# Altium schematic symbol library UVEEC LED Cube.SchLib: 12 symbols
Pins are listed as number, name and electrical type; pins without a type are passive.

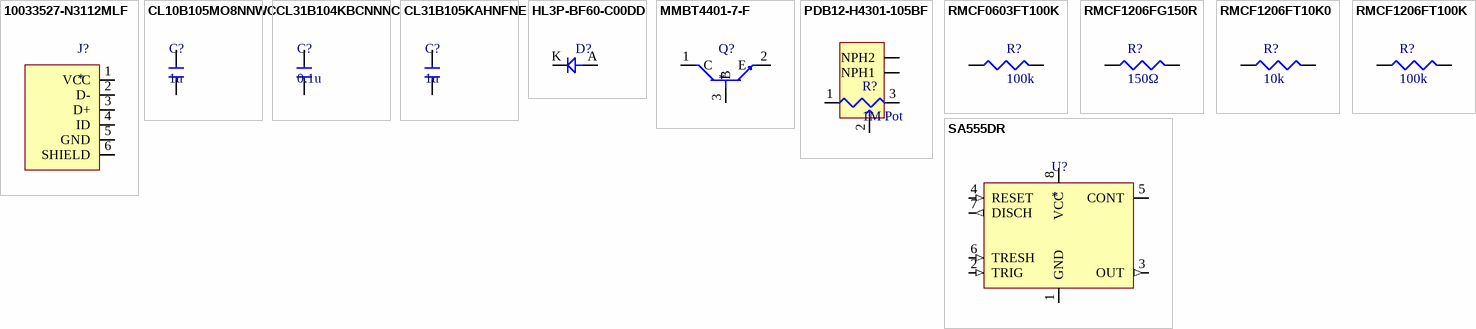
[diagram p0: symbols 10033527-N3112MLF to SA555DR]

## 10033527-N3112MLF
designator J?
MINI USB 2.0- AB Type Receptacle conn. Right Angle Surface Mount Type; Manufacturer: Amphenol ICC / FCI; Manufacturer Part Number: 10033527-N3112MLF; Number of Ports: 1; Gender: Female; Pitch: 0.8mm; Supplier: Digi-Key; Supplier Part Number: 609-10033527-N3112MLFCT-ND; RoHS: Yes; Category: Connectors; Stock: 11754; Pricing: 1=0.51, 10=0.446, 25=0.4076, 50=0.3838, 100=0.3677, 250=0.33576 (USD); Mounting Technology: Surface Mount; Contact Material: Copper Alloy; Contact Plating: Gold; Housing Material: Polymer; Packaging: Tape and Reel; Package Quantity: 750; Termination: Solder; Orientation: Right Angle; Length: 9.9mm; Depth: 9.2mm; RoHS Compliant: Yes; ComponentLink1URL: https://datasheet.ciiva.com/3094/10033527-3094701.pdf?src-supplier=Avnet; ComponentLink1Description: https://datasheet.ciiva.com/3094/10033527-3094701.pdf?src-supplier=Avnet
footprint 10033527-N3112MLF
pins: 1 VCC, 2 D-, 3 D+, 4 ID, 5 GND, 6 SHIELD

## CL10B105MO8NNWC
designator C?, comment 1u
CAP CER 1UF 16V X7R 0603; Manufacturer: Samsung; Manufacturer Part Number: CL10B105MO8NNWC; Tolerance: 20%; Supplier: Digi-Key; Supplier Part Number: 1276-6524-1-ND; RoHS: Yes; Category: Ceramic Capacitors; Stock: 1688630; Pricing: 1=0.1, 10=0.036, 50=0.0196, 100=0.016, 500=0.01142, 1000=0.00897 (USD); Mounting Technology: Surface Mount; Case/Package: 0603; Case Code (Metric): 1608; Case Code (Imperial): 0603; Min Operating Temperature: -55°C; Max Operating Temperature: 125°C; Packaging: Cut Tape; Value: 1uF; Voltage Rating: 16V; Series: CL; Length: 0.063inch; Width: 0.031inch; Thickness: 0.035inch; RoHS Compliant: Yes; ComponentLink1URL: https://media.digikey.com/pdf/Data%20Sheets/Samsung%20PDFs/CL10B105MO8NNWC.pdf?src-supplier=Digi-Key; ComponentLink1Description: https://media.digikey.com/pdf/Data%20Sheets/Samsung%20PDFs/CL10B105MO8NNWC.pdf?src-supplier=Digi-Key; ComponentLink2URL: http://www.farnell.com/datasheets/2710574.pdf?src-supplier=Farnell; ComponentLink2Description: http://www.farnell.com/datasheets/2710574.pdf?src-supplier=Farnell; ComponentLink3URL: https://datasheet.octopart.com/CL10B105MO8NNWC-Samsung-Electro-Mechanics-datasheet-120079234.pdf?src-supplier=Future+Electronics; ComponentLink3Description: https://datasheet.octopart.com/CL10B105MO8NNWC-Samsung-Electro-Mechanics-datasheet-120079234.pdf?src-supplier=Future+Electronics; ComponentLink4URL: http://www.farnell.com/datasheets/2710574.pdf?src-supplier=Newark; ComponentLink4Description: http://www.farnell.com/datasheets/2710574.pdf?src-supplier=Newark; ComponentLink5URL: http://www.farnell.com/datasheets/2710574.pdf?src-supplier=Element14; ComponentLink5Description: http://www.farnell.com/datasheets/2710574.pdf?src-supplier=Element14
footprint Capacitor 0603
pins: 1, 2

## CL31B104KBCNNNC
designator C?, comment 0.1u
Multilayer Ceramic Capacitor, 0.1 uF, 50 V, ± 10%, X7R, 1206 [3216 Metric]; Manufacturer: Samsung; Manufacturer Part Number: CL31B104KBCNNNC; Value: 100nF; Voltage: 50V; Supplier: Digi-Key; Supplier Part Number: 1276-1017-1-ND; RoHS: Yes; Category: Ceramic Capacitors; Stock: 760991; Pricing: 1=0.11, 10=0.078, 50=0.0444, 100=0.0368, 500=0.02582, 1000=0.02137 (USD); Mounting Technology: Surface Mount; Case/Package: 1206; Case Code (Metric): 3216; Case Code (Imperial): 1206; Material: Ceramic; Min Operating Temperature: -55°C; Max Operating Temperature: 125°C; Tolerance: 10%; Dielectric: X7R; Voltage Rating (DC): 50V; Packaging: Tape and Reel; Voltage Rating: 50V; Series: CL; Length: 3.2mm; Height: 0.85mm; Depth: 1.6mm; Lead Free: Lead Free; RoHS Compliant: Yes; ComponentLink1URL: https://datasheet.ciiva.com/25710/cl31b104kbcnnnc-25710293.pdf?src-supplier=Digi-Key; ComponentLink1Description: https://datasheet.ciiva.com/25710/cl31b104kbcnnnc-25710293.pdf?src-supplier=Digi-Key; ComponentLink2URL: https://datasheet.ciiva.com/29201/451941-da-01-en-vs-kondensator-1206-29201689.pdf?src-supplier=Conrad; ComponentLink2Description: https://datasheet.ciiva.com/29201/451941-da-01-en-vs-kondensator-1206-29201689.pdf?src-supplier=Conrad; ComponentLink3URL: https://datasheet.ciiva.com/16298/cl05b104kq5nnnc-16298186.pdf?src-supplier=Future+Electronics; ComponentLink3Description: https://datasheet.ciiva.com/16298/cl05b104kq5nnnc-16298186.pdf?src-supplier=Future+Electronics
footprint Capacitor 1206
pins: 1, 2

## CL31B105KAHNFNE
designator C?, comment 1u
Cap Ceramic 1uF 25V X7R 10% SMD 1206 125°C Embossed T/R; Manufacturer: Samsung; Manufacturer Part Number: CL31B105KAHNFNE; Supplier: Digi-Key; Supplier Part Number: 1276-3086-1-ND; RoHS: Yes; Category: Ceramic Capacitors; Stock: 266403; Pricing: 1=0.13, 10=0.094, 50=0.0534, 100=0.0443, 500=0.03106, 1000=0.02571 (USD); Mounting Technology: Surface Mount; Case/Package: 1206; Case Code (Metric): 3216; Case Code (Imperial): 1206; Min Operating Temperature: -55°C; Max Operating Temperature: 125°C; Packaging: Tape and Reel; Value: 1uF; Tolerance: 10%; Voltage Rating: 25V; Dielectric: X7R; Series: CL; Construction: Flat; Length: 3.2mm; Height: 1.6mm; Depth: 1.6mm; Radiation Hardening: No; RoHS Compliant: Yes; ComponentLink1URL: https://datasheet.ciiva.com/25731/cl31b105kahnfne-25731284.pdf?src-supplier=Digi-Key; ComponentLink1Description: https://datasheet.ciiva.com/25731/cl31b105kahnfne-25731284.pdf?src-supplier=Digi-Key
footprint Capacitor 1206
pins: 1, 2

## HL3P-BF60-C00DD
designator D?  (value not drawn)
LED Yellow Green 570nm 20mA 2-Pin Through Hole T/R; Manufacturer: Broadcom; Manufacturer Part Number: HL3P-BF60-C00DD; Supplier: Digi-Key; Supplier Part Number: 516-HL3P-BF60-C00DDCT-ND; RoHS: No; Stock: 26786; Pricing: 1=0.58, 10=0.384, 100=0.2541, 1000=0.19616 (USD)
footprint Diode TH D 1.05 P 2.54
pins: A, K

## MMBT4401-7-F
designator Q?
NPN Ic=600mA Vceo=40V hfe=100~300 fT=250MHz P=310mW SOT-23; Manufacturer: Diodes; Manufacturer Part Number: MMBT4401-7-F; Max Power Dissipation: 300mW; Frequency: 250MHz; Collector Emitter Voltage (VCEO): 40V; hFE Min: 100; Number of Elements: 1; Max Collector Current: 600mA; Collector Base Voltage (VCBO): 60V; Emitter Base Voltage (VEBO): 6V; Collector Emitter Saturation Voltage: 750mV; Power Dissipation: 310mW; Supplier: Digi-Key; Supplier Part Number: MMBT4401-FDICT-ND; RoHS: Yes; Category: BJTs; Stock: 950358; Pricing: 1=0.14, 10=0.098, 100=0.0528, 500=0.04146, 1000=0.02878 (USD); Mounting Technology: Surface Mount; Case/Package: SOT-23; Pins: 3; Weight: 0.000282oz; Min Operating Temperature: -55°C; Max Operating Temperature: 150°C; Polarity: NPN; Packaging: Tape and Reel; Package Quantity: 3000; Transition Frequency: 250MHz; Collector Emitter Breakdown Voltage: 40V; Max Breakdown Voltage: 40V; Continuous Collector Current: 600mA; Clock Frequency: 250MHz; Gain Bandwidth Product: 250MHz; Voltage Rating (DC): 40V; Series: Automotive, AEC-Q101; Collector-emitter Voltage-Max: 750mV; Length: 3.05mm; Width: 1.4mm; Height: 1mm; Radiation Hardening: No; Reach SVHC Compliant: Yes; Lead Free: Lead Free; RoHS Compliant: Yes; ComponentLink1URL: https://datasheet.ciiva.com/15139/getdatasheetpartid-91436-15139165.pdf?src-supplier=Verical; ComponentLink1Description: https://datasheet.ciiva.com/15139/getdatasheetpartid-91436-15139165.pdf?src-supplier=Verical; ComponentLink2URL: https://datasheet.ciiva.com/972/ds30039-972547.pdf?src-supplier=Digi-Key; ComponentLink2Description: https://datasheet.ciiva.com/972/ds30039-972547.pdf?src-supplier=Digi-Key; ComponentLink3URL: https://datasheet.ciiva.com/972/ds30039-972548.pdf?src-supplier=Digi-Key; ComponentLink3Description: https://datasheet.ciiva.com/972/ds30039-972548.pdf?src-supplier=Digi-Key; ComponentLink4URL: https://datasheet.ciiva.com/972/ds30039-972549.pdf?src-supplier=Digi-Key; ComponentLink4Description: https://datasheet.ciiva.com/972/ds30039-972549.pdf?src-supplier=Digi-Key; ComponentLink5URL: https://datasheet.ciiva.com/16199/ds30039-16199054.pdf?src-supplier=Future+Electronics; ComponentLink5Description: https://datasheet.ciiva.com/16199/ds30039-16199054.pdf?src-supplier=Future+Electronics; ComponentLink6URL: https://datasheet.ciiva.com/11201/ds30039-11201820.pdf?src-supplier=Avnet; ComponentLink6Description: https://datasheet.ciiva.com/11201/ds30039-11201820.pdf?src-supplier=Avnet
footprint SOT-23-3
pins: 1 C, 2 E, 3 B

## PDB12-H4301-105BF
designator R?, comment 1M Pot
Res Carbon Film POT 1M Ohm 20% 2/25W 1(Elec)/1(Mech)Turn 6mm (12.4 X 34.6mm) Pin Bracket Mount/Through Hole; Manufacturer: Bourns; Manufacturer Part Number: PDB12-H4301-105BF; Value: 1MR; Power Rating: 80mW; Number of Turns: 1; Supplier: Digi-Key; Supplier Part Number: PDB12-H4301-105BF-ND; RoHS: Yes; Category: Variable Resistors and Potentiometers; Stock: 887; Pricing: 1=1.28, 10=1.133, 25=1.02, 50=0.9822, 100=0.9444, 250=0.88768, 500=0.75548, 1000=0.69882, 5000=0.57416 (USD); Mounting Technology: Through Hole,Brackets; Min Operating Temperature: -10°C; Max Operating Temperature: 50°C; Package Quantity: 100; Packaging: Bulk; Tolerance: 20%; Resistor Type: Carbon; Taper: Linear; Termination: Pin; Number of Gangs: 1; Max Power Dissipation: 80mW; Type: Potentiometer; Series: PDB12; Technology: CARBON FILM; Length: 12.4mm; Depth: 12.4mm; Radiation Hardening: No; Military Standard: Not; RoHS Compliant: Yes; ComponentLink1URL: https://datasheet.ciiva.com/26913/getdatasheetpartid-380329-26913658.pdf?src-supplier=Verical; ComponentLink1Description: https://datasheet.ciiva.com/26913/getdatasheetpartid-380329-26913658.pdf?src-supplier=Verical; ComponentLink2URL: https://datasheet.ciiva.com/8702/pdb12-8702733.pdf?src-supplier=Avnet; ComponentLink2Description: https://datasheet.ciiva.com/8702/pdb12-8702733.pdf?src-supplier=Avnet
footprint PDB12-H4301-105BF
pins: 1 CCW, 2 WIPER, 3 CW, NPH1, NPH2

## RMCF0603FT100K
designator R?, comment 100k
RES 100K OHM 1% 1/10W 0603; Manufacturer: Stackpole Electronics; Manufacturer Part Number: RMCF0603FT100K; Value: 100kR; Max Power Dissipation: 100mW; Temperature Coefficient: 100ppm/°C; Supplier: Digi-Key; Supplier Part Number: RMCF0603FT100KCT-ND; RoHS: Yes; Category: Chip SMD Resistors; Stock: 1802421; Pricing: 1=0.1, 10=0.014, 50=0.0086, 100=0.0071, 500=0.00474, 1000=0.00404 (USD); Mounting Technology: Surface Mount; Case/Package: 0603; Case Code (Metric): 1608; Case Code (Imperial): 0603; Contact Plating: Tin,Matte; Min Operating Temperature: -55°C; Max Operating Temperature: 155°C; Tolerance: 1%; Packaging: Tape and Reel; Number of Terminations: 2; Features: Automotive AEC-Q200; Series: RMCF; Construction: Rectangular; Length: 1.55mm; Width: 0.031inch; Height: 0.022inch; Depth: 0.8mm; Radiation Hardening: No; Military Standard: Not; Lead Free: Lead Free; RoHS Compliant: Yes; ComponentLink1URL: https://datasheet.ciiva.com/15193/getdatasheetpartid-362597-15193437.pdf?src-supplier=Verical; ComponentLink1Description: https://datasheet.ciiva.com/15193/getdatasheetpartid-362597-15193437.pdf?src-supplier=Verical
footprint Resistor 0603
pins: 1, 2

## RMCF1206FG150R
designator R?, comment 150Ω
RES 150 OHM 1% 1/4W 1206; Manufacturer: Stackpole Electronics; Manufacturer Part Number: RMCF1206FG150R; Value: 150R; Max Power Dissipation: 250mW; Temperature Coefficient: 100ppm/°C; Supplier: Digi-Key; Supplier Part Number: RMCF1206FG150RCT-ND; RoHS: Yes; Category: Chip SMD Resistors; Stock: 105204; Pricing: 1=0.1, 10=0.023, 50=0.0146, 100=0.0122, 500=0.00832, 1000=0.00718, 5000=0.00526 (USD); Mounting Technology: Surface Mount; Case/Package: 1206; Case Code (Metric): 3216; Case Code (Imperial): 1206; Contact Plating: Tin,Matte; Min Operating Temperature: -55°C; Max Operating Temperature: 155°C; Packaging: Tape and Reel; Tolerance: 1%; Number of Terminations: 2; Features: Automotive AEC-Q200; Series: RMCF; Ratings: AEC-Q200; Radiation Hardening: No; RoHS Compliant: Yes; ComponentLink1URL: https://www.seielect.com/catalog/SEI-RMCF_RMCP.pdf?src-supplier=Avnet; ComponentLink1Description: https://www.seielect.com/catalog/SEI-RMCF_RMCP.pdf?src-supplier=Avnet; ComponentLink2URL: https://www.seielect.com/catalog/sei-rmcf_rmcp.pdf?src-supplier=Digi-Key; ComponentLink2Description: https://www.seielect.com/catalog/sei-rmcf_rmcp.pdf?src-supplier=Digi-Key; ComponentLink3URL: https://www.seielect.com/catalog/SEI-Packaging.pdf?src-supplier=Digi-Key; ComponentLink3Description: https://www.seielect.com/catalog/SEI-Packaging.pdf?src-supplier=Digi-Key
footprint Resistor 1206
footprint Resistor 1206
footprint Resistor 1206
footprint Resistor 1206
pins: 1, 2

## RMCF1206FT10K0
designator R?, comment 10k
Res Thick Film 1206 10K Ohm 1% 0.25W ±100ppm/°C Molded SMD Paper T/R; Manufacturer: Stackpole Electronics; Manufacturer Part Number: RMCF1206FT10K0; Value: 10kR; Power Rating: 250mW; Voltage Rating: 200V; Supplier: Digi-Key; Supplier Part Number: RMCF1206FT10K0CT-ND; RoHS: Yes; Category: Chip SMD Resistors; Stock: 1414203; Pricing: 1=0.1, 10=0.023, 50=0.0146, 100=0.0122, 500=0.00832, 1000=0.00718 (USD); Mounting Technology: Surface Mount; Case/Package: 1206; Case Code (Metric): 3216; Case Code (Imperial): 1206; Contact Plating: Tin,Matte; Min Operating Temperature: -55°C; Max Operating Temperature: 155°C; Tolerance: 1%; Packaging: Tape and Reel; Number of Terminations: 2; Max Power Dissipation: 250mW; Temperature Coefficient: 100ppm/°C; Features: Automotive AEC-Q200; Series: RMCF; Construction: Rectangular; Length: 3.2mm; Width: 0.063inch; Height: 0.028inch; Depth: 1.6mm; Ratings: AEC-Q200; Radiation Hardening: No; Military Standard: Not; Lead Free: Lead Free; RoHS Compliant: Yes; ComponentLink1URL: https://datasheet.ciiva.com/15193/getdatasheetpartid-369489-15193659.pdf?src-supplier=Verical; ComponentLink1Description: https://datasheet.ciiva.com/15193/getdatasheetpartid-369489-15193659.pdf?src-supplier=Verical
footprint Resistor 1206
pins: 1, 2

## RMCF1206FT100K
designator R?, comment 100k
Res Thick Film 1206 100K Ohm 1% 1/4W ±100ppm/°C Molded SMD SMD Paper T/R; Manufacturer: Stackpole Electronics; Manufacturer Part Number: RMCF1206FT100K; Value: 100kR; Power Rating: 250mW; Supplier: Digi-Key; Supplier Part Number: RMCF1206FT100KCT-ND; RoHS: Yes; Category: Chip SMD Resistors; Stock: 807429; Pricing: 1=0.1, 10=0.023, 50=0.0146, 100=0.0122, 500=0.00832, 1000=0.00718 (USD); Mounting Technology: Surface Mount; Case/Package: 1206; Case Code (Metric): 3216; Case Code (Imperial): 1206; Contact Plating: Tin,Matte; Min Operating Temperature: -55°C; Max Operating Temperature: 155°C; Packaging: Tape and Reel; Tolerance: 1%; Number of Terminations: 2; Max Power Dissipation: 250mW; Temperature Coefficient: 100ppm/°C; Features: Automotive AEC-Q200; Series: RMCF; Construction: Rectangular; Length: 0.126inch; Width: 0.063inch; Height: 0.028inch; Depth: 1.6mm; Ratings: AEC-Q200; Radiation Hardening: No; Military Standard: Not; Lead Free: Lead Free; RoHS Compliant: Yes; ComponentLink1URL: http://components.arrow.com/part/dataview/43745800S7171854N1174?src-supplier=Arrow+Electronics; ComponentLink1Description: http://components.arrow.com/part/dataview/43745800S7171854N1174?src-supplier=Arrow+Electronics; ComponentLink2URL: http://www.seielect.com/catalog/sei-rmc.pdf?src-supplier=Future+Electronics; ComponentLink2Description: http://www.seielect.com/catalog/sei-rmc.pdf?src-supplier=Future+Electronics; ComponentLink3URL: https://www.seielect.com/Catalog/SEI-RMCF_RMCP.pdf?src-supplier=Digi-Key; ComponentLink3Description: https://www.seielect.com/Catalog/SEI-RMCF_RMCP.pdf?src-supplier=Digi-Key; ComponentLink4URL: https://www.seielect.com/catalog/SEI-Packaging.pdf?src-supplier=Digi-Key; ComponentLink4Description: https://www.seielect.com/catalog/SEI-Packaging.pdf?src-supplier=Digi-Key; ComponentLink5URL: https://www.seielect.com/catalog/SEI-RMCF_RMCP.pdf?src-supplier=Avnet; ComponentLink5Description: https://www.seielect.com/catalog/SEI-RMCF_RMCP.pdf?src-supplier=Avnet; ComponentLink6URL: https://www.verical.com/server-webapp/html/getDatasheet?partID=359910&src-supplier=Verical; ComponentLink6Description: https://www.verical.com/server-webapp/html/getDatasheet?partID=359910&src-supplier=Verical; ComponentLink7URL: https://datasheet.octopart.com/RMCF1206FT100K-Stackpole-Electronics-datasheet-11547379.pdf?src-supplier=Future+Electronics; ComponentLink7Description: https://datasheet.octopart.com/RMCF1206FT100K-Stackpole-Electronics-datasheet-11547379.pdf?src-supplier=Future+Electronics
footprint Resistor 1206
pins: 1, 2

## SA555DR
designator U?
IC OSC SGL TIMER 100KHZ 8-SOIC; Manufacturer: Texas Instruments; Manufacturer Part Number: SA555DR; Min Supply Voltage: 4.5V; Max Supply Voltage: 16V; Operating Supply Current: 10mA; Number of Timers/Counters: 1; Quiescent Current: 15mA; High Level Output Current: -200mA; Low Level Output Current: 200mA; Supply Current: 2mA; Supplier: Digi-Key; Supplier Part Number: 296-14635-1-ND; RoHS: Yes; Category: Timers and Oscillators; Stock: 21612; Pricing: 1=0.38, 10=0.31, 25=0.2836, 100=0.2109, 250=0.19116, 500=0.1582, 1000=0.11864 (USD); Mounting Technology: Surface Mount; Case/Package: SOIC; Pins: 8; Weight: 0.002561oz; Min Operating Temperature: -40°C; Max Operating Temperature: 85°C; Frequency: 100kHz; Packaging: Tape and Reel; Package Quantity: 2500; Series: -; Radiation Hardening: No; Lead Free: Lead Free; RoHS Compliant: Yes; Reach SVHC Compliant: No; ComponentLink1URL: https://datasheet.ciiva.com/34303/1998263-34303726.pdf?src-supplier=Jameco; ComponentLink1Description: https://datasheet.ciiva.com/34303/1998263-34303726.pdf?src-supplier=Jameco; ComponentLink2URL: https://datasheet.ciiva.com/1592/1748907-1592972.pdf?src-supplier=Newark; ComponentLink2Description: https://datasheet.ciiva.com/1592/1748907-1592972.pdf?src-supplier=Newark; ComponentLink3URL: https://datasheet.ciiva.com/46413/1834004-46413322.pdf?src-supplier=Element14; ComponentLink3Description: https://datasheet.ciiva.com/46413/1834004-46413322.pdf?src-supplier=Element14; ComponentLink4URL: https://datasheet.ciiva.com/1233/sa555-1233135.pdf?src-supplier=Digi-Key; ComponentLink4Description: https://datasheet.ciiva.com/1233/sa555-1233135.pdf?src-supplier=Digi-Key; ComponentLink5URL: https://datasheet.ciiva.com/1233/sa555-1233134.pdf?src-supplier=Digi-Key; ComponentLink5Description: https://datasheet.ciiva.com/1233/sa555-1233134.pdf?src-supplier=Digi-Key; ComponentLink6URL: https://datasheet.ciiva.com/1233/sa555-1233136.pdf?src-supplier=Digi-Key; ComponentLink6Description: https://datasheet.ciiva.com/1233/sa555-1233136.pdf?src-supplier=Digi-Key; ComponentLink7URL: https://datasheet.ciiva.com/14274/se555m-14274469.pdf?src-supplier=Avnet; ComponentLink7Description: https://datasheet.ciiva.com/14274/se555m-14274469.pdf?src-supplier=Avnet; ComponentLink8URL: https://datasheet.ciiva.com/15152/getdatasheetpartid-247856-15152619.pdf?src-supplier=Verical; ComponentLink8Description: https://datasheet.ciiva.com/15152/getdatasheetpartid-247856-15152619.pdf?src-supplier=Verical
footprint SOIC-8
pins: 1 GND (power), 2 TRIG (in), 3 OUT (out), 4 RESET (in), 5 CONT (io), 6 TRESH (in), 7 DISCH (out), 8 VCC (power)